# Altium footprint library RADIAL-2_10MM.PcbLib: 1 footprints
Each footprint in its own frame and in the unit in brackets; x right, y up, seen from the top. Pads: shape width x height; smd on the part's side, far side on the other; paste and mask are expansions set on the pad; w line width, h text height; cw(c..) or ccw(c..) is an arc to the next point about the centre after c.
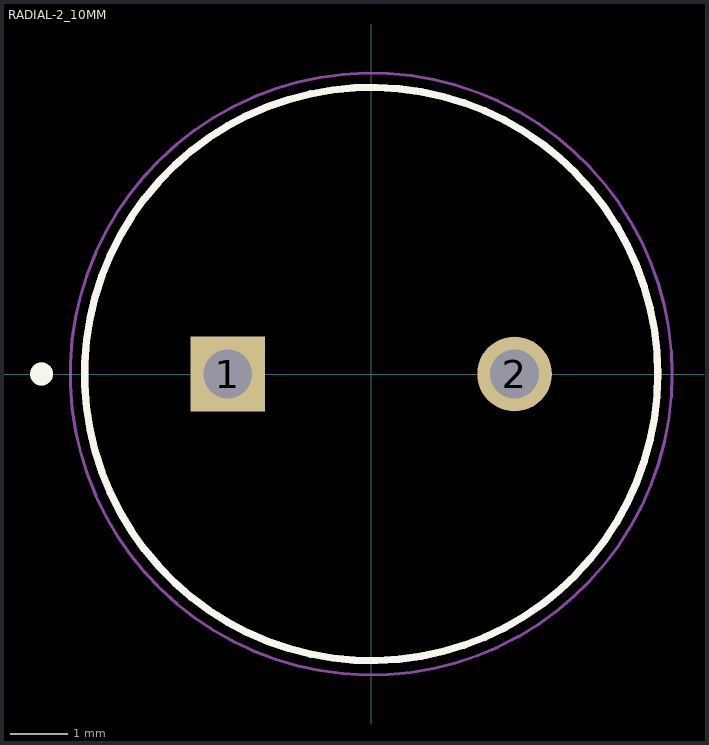
[diagram p0: the footprint, top view; thin cyan lines are the x and y axes]

## RADIAL-2_10MM [mm]
pads (2):
  rect 1.3x1.3 hole 0.85: 1(-2.5,0)
  round 1.3 hole 0.85: 2(2.5,0)
Top Overlay:
  circle w0.127: c0,0 r5
  circle w0.2: c-5.75,0 r0.1
Mechanical 13:
  circle w0.127: c0,0 r5
  circle w0.2: c-5.75,0 r0.1
Mechanical 15:
  circle w0.05: c0,0 r5.25
3D body "step_temp.STEP": height 12.5, standoff -17, extent -5,-4.998 5,4.998